# EAGLE library part LCD128X64 (library Display)
LCD display 128 X 64
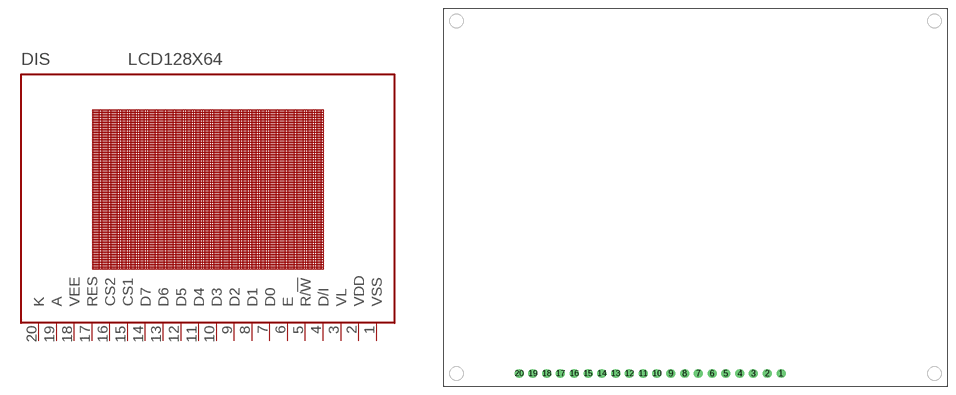
[diagram p0: symbol with the pads of LCD128X64; footprint LCD128X64]

Designator prefix DIS

## LCD128X64 (OC_FARNELL: unknown; OC_NEWARK: unknown)  [LCD128X64]
1  VSS  pwr
2  VDD  pwr
3  VL  pas
4  D/I  in
5  R/!W  in
6  E  in
7  D0
8  D1
9  D2
10  D3
11  D4
12  D5
13  D6
14  D7
15  CS1  in
16  CS2  in
17  RES  in
18  VEE  out
19  A  pas
20  K  pas

## Footprint LCD128X64 (pad centres in mm)
HDM64GS12_-R 128 X 64 Dots Graphic Source: http://www.hantronix.com/down/64gs12-r.pdf
drill 1.1: 1 62.115,2.425; 2 59.575,2.425; 3 57.035,2.425; 4 54.495,2.425; 5 51.955,2.425; 6 49.415,2.425; 7 46.875,2.425; 8 44.335,2.425; 9 41.795,2.425; 10 39.255,2.425; 11 36.715,2.425; 12 34.175,2.425; 13 31.635,2.425; 14 29.095,2.425; 15 26.555,2.425; 16 24.015,2.425; 17 21.475,2.425; 18 18.935,2.425; 19 16.395,2.425; 20 13.855,2.425